# Altium footprint library ETSSOP.PcbLib: 4 footprints
Each footprint in its own frame and in the unit in brackets; x right, y up, seen from the top. Pads: shape width x height; smd on the part's side, far side on the other; paste and mask are expansions set on the pad; w line width, h text height; cw(c..) or ccw(c..) is an arc to the next point about the centre after c.
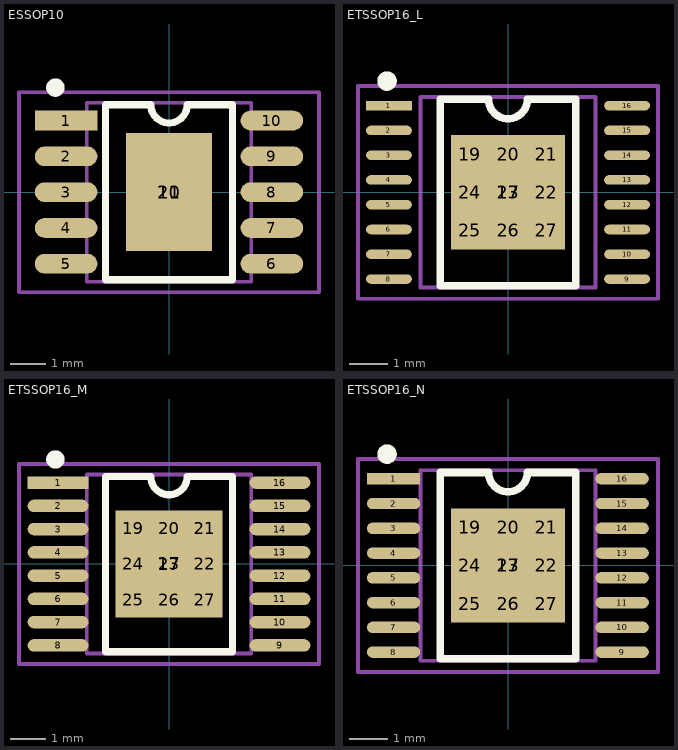
[diagram p0: the footprints below, top view; thin cyan lines are the x and y axes]

## ESSOP10 [mm]
pads (12):
  rect 1.75x0.55 smd: 1(-2.875,2)
  oval 1.75x0.55 smd: 2(-2.875,1) 3(-2.875,0) 4(-2.875,-1) 5(-2.875,-2) 6(2.875,-2) 7(2.875,-1) 8(2.875,0) 9(2.875,1) 10(2.875,2)
  rect 2.4x3.3 smd paste-3: 11(0,0)
  rect 2.4x3.3 on Top Paste: 20(0,0)
Top Overlay:
  circle w0.254: c-3.175,2.921 r0.13
  lines w0.2: -1.778,-2.45 1.778,-2.45 1.778,2.44 0.508,2.44 cw(c0,2.44) -0.508,2.44 -1.778,2.44 -1.778,-2.45
Mechanical 13:
  lines w0.1: -2.3,-2.5 -2.3,2.5 2.3,2.5 2.3,-2.5 -2.3,-2.5
Mechanical 15:
  circle w0.05: c0,0 r0.35
  lines w0.05: -0.5,0 0.5,0 ; 0,-0.5 0,0.5
  lines w0.1: -4.191,-2.794 -4.191,2.794 4.191,2.794 4.191,-2.794 -4.191,-2.794
3D body "ETSSOP16.STEP": height 1.03, standoff -0.02, extent -3.202,-2.5 3.202,2.5

## ETSSOP16_L [mm] "5*6.4*1.2mm（长宽高）"
pads (26):
  rect 1.2x0.25 smd: 1(-3.125,2.275)
  oval 1.2x0.25 smd: 2(-3.125,1.625) 3(-3.125,0.975) 4(-3.125,0.325) 5(-3.125,-0.325) 6(-3.125,-0.975) 7(-3.125,-1.625) 8(-3.125,-2.275) 9(3.125,-2.275) 10(3.125,-1.625) 11(3.125,-0.975) 12(3.125,-0.325) 13(3.125,0.325) 14(3.125,0.975) 15(3.125,1.625) 16(3.125,2.275)
  rect 3x3 smd paste-3: 17(0,0)
  rect 0.75x0.75 on Top Paste: 19(-1,1) 20(0,1) 21(1,1) 22(1,0) 23(0,0) 24(-1,0) 25(-1,-1) 26(0,-1) 27(1,-1)
Top Overlay:
  circle w0.254: c-3.175,2.921 r0.13
  lines w0.2: -1.778,-2.45 1.778,-2.45 1.778,2.44 0.508,2.44 cw(c0,2.44) -0.508,2.44 -1.778,2.44 -1.778,-2.45
Mechanical 13:
  lines w0.1: -2.3,-2.5 2.3,-2.5 2.3,2.5 -2.3,2.5 -2.3,-2.5
Mechanical 15:
  circle w0.05: c0,0 r0.35
  lines w0.05: -0.5,0 0.5,0 ; 0,-0.5 0,0.5
  lines w0.1: -3.937,-2.794 -3.937,2.794 3.937,2.794 3.937,-2.794 -3.937,-2.794
3D body "ETSSOP16.STEP": height 1.03, standoff -0.02, extent -3.202,-2.5 3.202,2.5

## ETSSOP16_M [mm] "5*6.4*1.2mm（长宽高）"
pads (26):
  rect 1.7x0.35 smd: 1(-3.1,2.275)
  oval 1.7x0.35 smd: 2(-3.1,1.625) 3(-3.1,0.975) 4(-3.1,0.325) 5(-3.1,-0.325) 6(-3.1,-0.975) 7(-3.1,-1.625) 8(-3.1,-2.275) 9(3.1,-2.275) 10(3.1,-1.625) 11(3.1,-0.975) 12(3.1,-0.325) 13(3.1,0.325) 14(3.1,0.975) 15(3.1,1.625) 16(3.1,2.275)
  rect 3x3 smd paste-3: 17(0,0)
  rect 0.75x0.75 on Top Paste: 19(-1,1) 20(0,1) 21(1,1) 22(1,0) 23(0,0) 24(-1,0) 25(-1,-1) 26(0,-1) 27(1,-1)
Top Overlay:
  circle w0.254: c-3.175,2.921 r0.13
  lines w0.2: -1.778,-2.45 -1.778,2.44 -0.508,2.44 ccw(c0,2.44) 0.508,2.44 1.778,2.44 1.778,-2.45 -1.778,-2.45
Mechanical 13:
  lines w0.1: -2.3,-2.5 2.3,-2.5 2.3,2.5 -2.3,2.5 -2.3,-2.5
Mechanical 15:
  circle w0.05: c0,0 r0.35
  lines w0.05: -0.5,0 0.5,0 ; 0,-0.5 0,0.5
  lines w0.1: -4.191,-2.794 4.191,-2.794 4.191,2.794 -4.191,2.794 -4.191,-2.794
3D body "ETSSOP16.STEP": height 1.03, standoff -0.02, extent -3.202,-2.5 3.202,2.5

## ETSSOP16_N [mm] "5*6.4*1.2mm（长宽高）"
pads (26):
  rect 1.4x0.3 smd: 1(-3.004,2.275)
  oval 1.4x0.3 smd: 2(-3.004,1.625) 3(-3.004,0.975) 4(-3.004,0.325) 5(-3.004,-0.325) 6(-3.004,-0.975) 7(-3.004,-1.625) 8(-3.004,-2.275) 9(2.996,-2.275) 10(2.996,-1.625) 11(2.996,-0.975) 12(2.996,-0.325) 13(2.996,0.325) 14(2.996,0.975) 15(2.996,1.625) 16(2.996,2.275)
  rect 3x3 smd paste-3: 17(0,0)
  rect 0.75x0.75 on Top Paste: 19(-1,1) 20(0,1) 21(1,1) 22(1,0) 23(0,0) 24(-1,0) 25(-1,-1) 26(0,-1) 27(1,-1)
Top Overlay:
  circle w0.254: c-3.175,2.921 r0.13
  lines w0.2: -1.778,-2.45 1.778,-2.45 1.778,2.44 0.508,2.44 cw(c0,2.44) -0.508,2.44 -1.778,2.44 -1.778,-2.45
Mechanical 13:
  lines w0.1: -2.3,-2.5 2.3,-2.5 2.3,2.5 -2.3,2.5 -2.3,-2.5
Mechanical 15:
  circle w0.05: c0,0 r0.35
  lines w0.05: -0.5,0 0.5,0 ; 0,-0.5 0,0.5
  lines w0.1: -3.937,-2.794 -3.937,2.794 3.937,2.794 3.937,-2.794 -3.937,-2.794
3D body "ETSSOP16.STEP": height 1.03, standoff -0.02, extent -3.202,-2.5 3.202,2.5